# Altium schematic symbol library OpenCore_Sch_Lib.SchLib: 72 symbols (part 2 of 2)
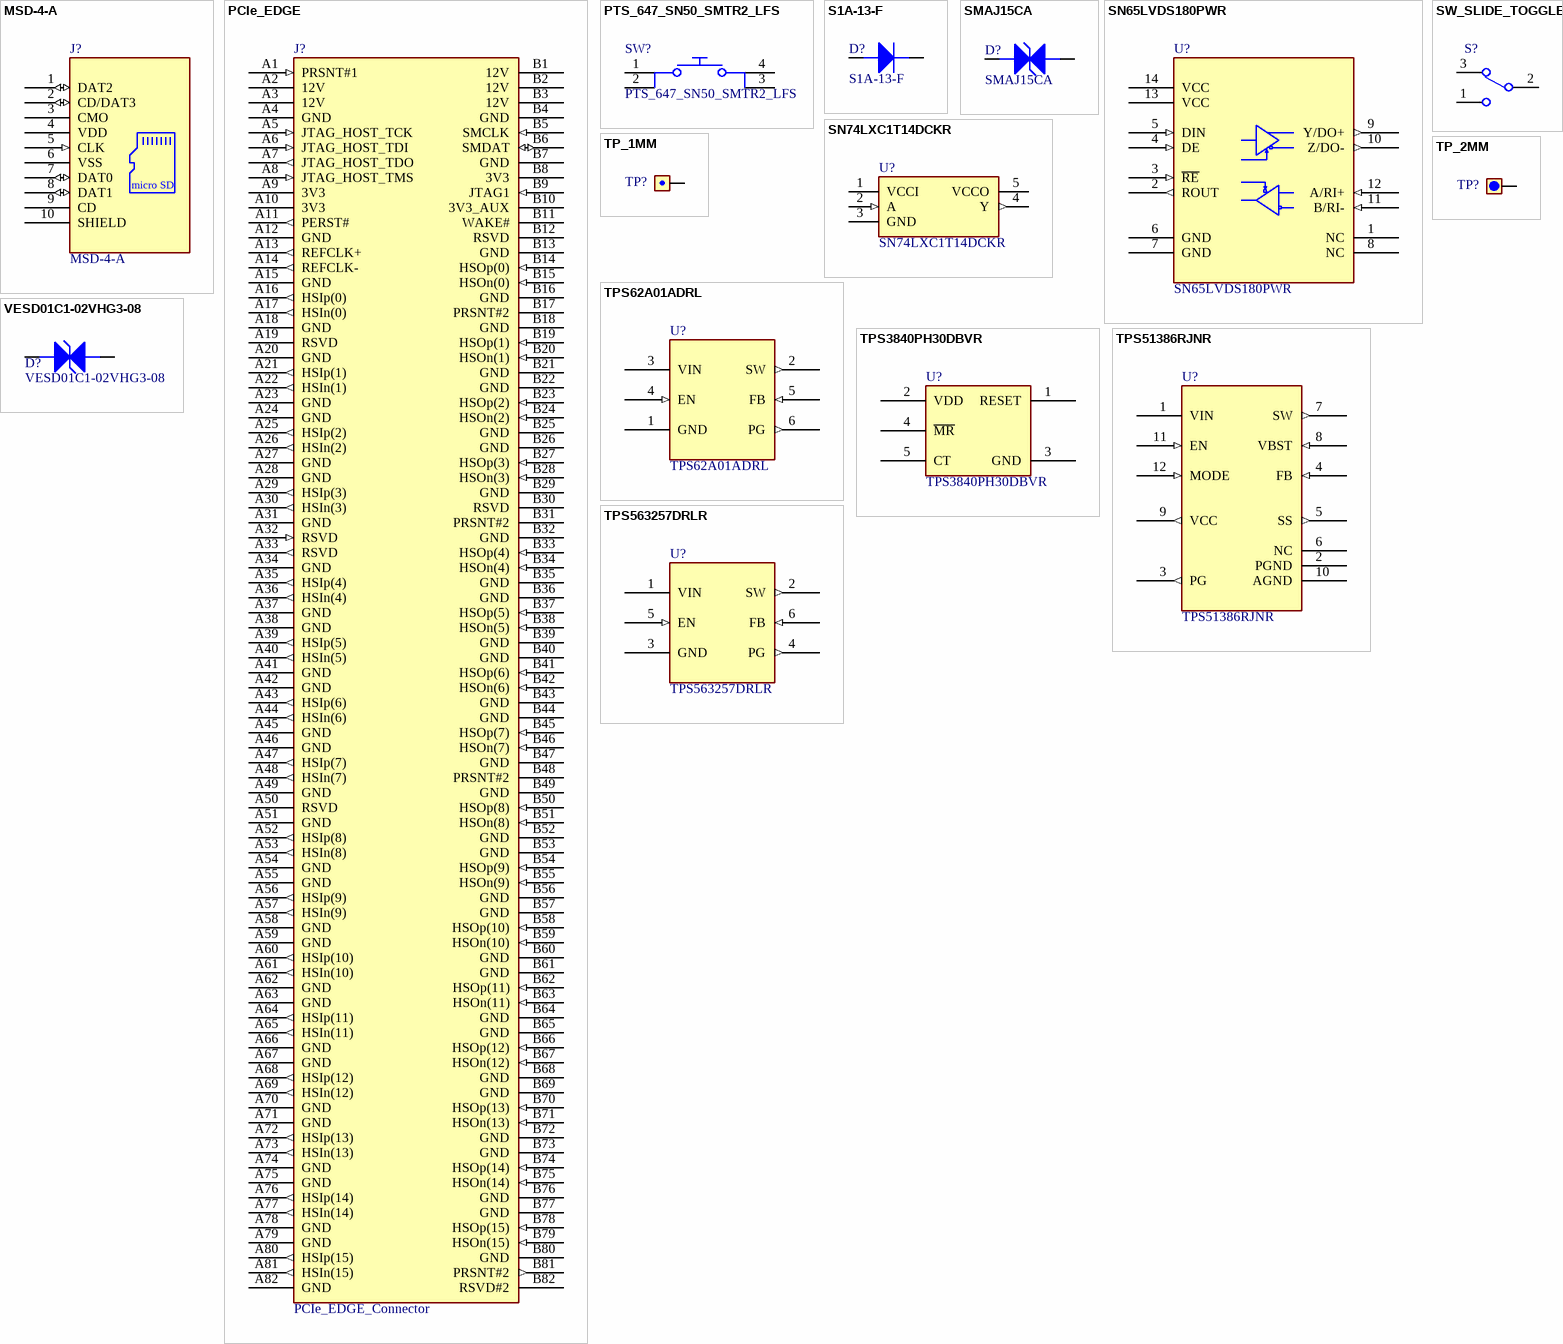
[diagram p4: symbols MSD-4-A to VESD01C1-02VHG3-08]

## SN65LVDS180PWR
designator U?
IC TRANSCEIVER FULL 1/1 14TSSOP; Manufacturer_Name: Texas Instruments; Datasheet Link: https://www.ti.com/lit/ds/symlink/sn65lvds050.pdf; Height: 1.2 mm; Manufacturer_Part_Number: SN65LVDS180PWR
footprint TI_TSSOP14_PW (TSOP, 14-Leads, Body 5.00x4.40mm, Pitch 0.65mm, IPC Medium Density)
pins: 1 NC, 2 ROUT (out) "LVTTL output signal", 3 ~{RE} (in) "Receiver enable", 4 DE (in) "Driver enable", 5 DIN (in) "LVTTL input signal", 6 GND (power) "Ground", 7 GND (power) "Ground", 8 NC, 9 Y/DO+ (out) "Differential (LVDS) non-inverting output", 10 Z/DO- (out) "Differential (LVDS) inverting output", 11 B/RI- (in) "Differential (LVDS) inverting input", 12 A/RI+ (in) "Differential (LVDS) non-inverting input", 13 VCC (power) "Supply Voltage", 14 VCC (power) "Supply Voltage"

## SN74LXC1T14DCKR
designator U?
IC TRANSLATOR UNIDIR SC70-5
footprint TI_SC70_DCK0005A
pins: 1 VCCI (power), 2 A (in), 3 GND (power), 4 Y (out), 5 VCCO (power)

## SW_SLIDE_TOGGLE
designator S?
SWITCH SLIDE SPDT 5A 28V; Manufacturer 1: E-Switch; Manufacturer Part Number 1: 500SSP1S2M2QEA; Package/Footprint: TH; Supplier 1: Digi-Key; Mounting Type: TH; Voltage Rating (DC): 28V; Throw Configuration: SPDT; Supplier Part Number 1: EG5137-ND
footprint 500SSP1S2M2QEA
pins: 1, 2, 3

## TP_1MM
designator TP?, comment 1mm Round Pad Testpoint  (value not drawn)
footprint TP_1MM (1MM SMD Round Pad)
pins: 1

## TP_2MM
designator TP?, comment 2mm Round Pad Testpoint  (value not drawn)
footprint TP_2MM (2MM SMD Round Pad)
pins: 1

## TPS62A01ADRL
designator U?
IC REG BUCK ADJ 1A SOT5X3; Manufacturer: Texas Instruments; Manufacturer Part Number: TLV62568ADRLR
footprint TI_SOT6_DRL0006A (SOTFL, 6-Leads, Body 1.60x1.60mm, Pitch 0.50mm, IPC Medium Density)
pins: 1 GND (power), 2 SW (out), 3 VIN (power), 4 EN (in), 5 FB (in), 6 PG (out)

## TPS3840PH30DBVR
designator U?
IC SUPERVISOR 1 CHANNEL SOT23-5
footprint TI_SOT23_DBV0005A
pins: 1 RESET, 2 VDD, 3 GND, 4 ~{MR}, 5 CT

## TPS51386RJNR
designator U?
IC REG BUCK ADJ 8A 12-PowerVFQFN; Manufacturer: Texas Instruments; Manufacturer Part Number: TPS51386RJNR
footprint TI_RJN0012A_POWERVQFN12 (12 VQFN-HR)
pins: 1 VIN (power), 2 PGND (power), 3 PG (out), 4 FB (in), 5 SS (out), 6 NC, 7 SW (out), 8 VBST (in), 9 VCC (out), 10 AGND (power), 11 EN (in), 12 MODE (in)

## TPS563257DRLR
designator U?
IC REG BUCK ADJ 3A SOT563
footprint TI_SOT6_DRL0006A (SOTFL, 6-Leads, Body 1.60x1.60mm, Pitch 0.50mm, IPC Medium Density)
pins: 1 VIN (power), 2 SW (out), 3 GND (power), 4 PG (out), 5 EN (in), 6 FB (in)

## VESD01C1-02VHG3-08
designator D?
TVS DIODE 1VWM 6.9VC SOD523; Manufacturer Part Number: VESD01C1-02VHG3-08
footprint VISHAY_SOD523
pins: A Anode, K Cathode